# EAGLE library part RT6200 (library Regulator)
The RT6200 is a high voltage Buck converter that can support the input voltage range from 4.5V to 36V and the output current can be up to 0.6A. Current mode operation provides fast transient response and eases loop stabilization. The chip also provides protection functions such as cycleby-cycle current limit and thermal shutdown protection. The RT6200 is available in the SOT-23-6 package.
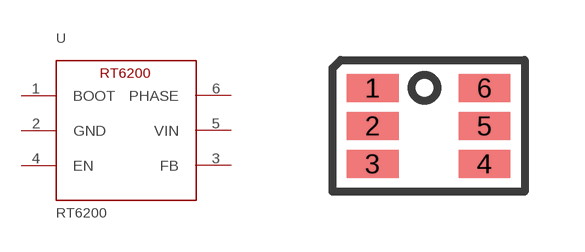
[diagram p7: symbol with the pads of SOT-23-6; footprint SOT-23-6]

Designator prefix U

## RT6200GE  [SOT-23-6]
1  BOOT
2  GND  pwr
3  FB
4  EN
5  VIN  pwr
6  PHASE

## Footprint SOT-23-6 (pad centres in mm)
smd 1.3 x 0.7: 1 0.1,0; 2 0.1,-0.95; 3 0.1,-1.9; 4 2.9,-1.9; 5 2.9,-0.95; 6 2.9,0